# Altium footprint library PcbLib.PcbLib: 8 footprints
Each footprint in its own frame and in the unit in brackets; x right, y up, seen from the top. Pads: shape width x height; smd on the part's side, far side on the other; paste and mask are expansions set on the pad; w line width, h text height; cw(c..) or ccw(c..) is an arc to the next point about the centre after c.
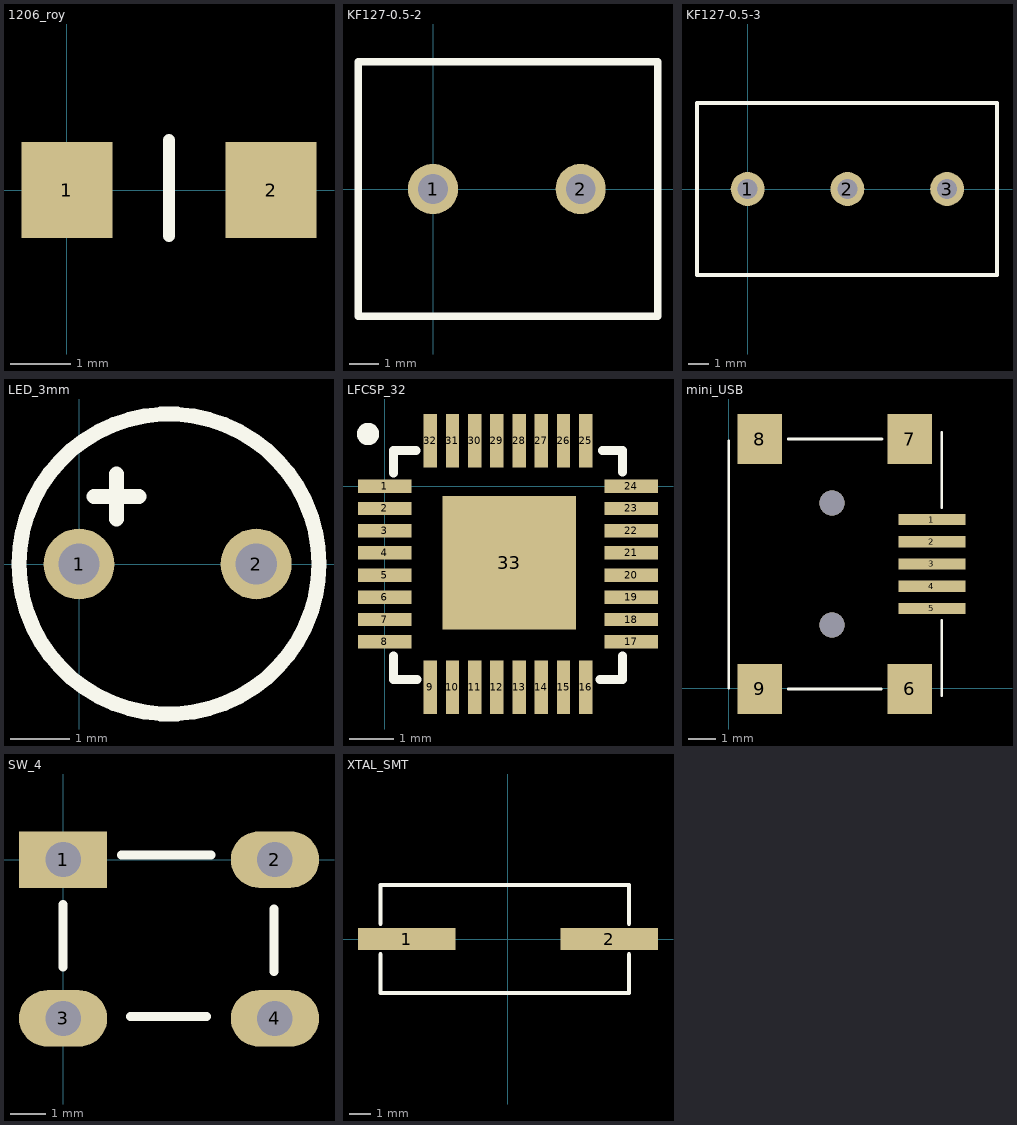
[diagram p0: the footprints below, top view; thin cyan lines are the x and y axes]

## 1206_roy [mm]
pads (2):
  rect 1.52x1.6 smd: 1(0,0) 2(3.4,0)
Top Overlay:
  lines w0.2: 1.702,-0.762 1.702,0.838

## KF127-0.5-2 [mm]
pads (2):
  round 1.7 hole 1: 1(0,0) 2(5,0)
Top Overlay:
  lines w0.254: -2.54,-4.318 7.62,-4.318 7.62,4.318 -2.54,4.318 -2.54,0 -2.54,-4.318

## KF127-0.5-3 [mm]
pads (3):
  round 1.7 hole 1: 1(0,0) 2(5,0) 3(10,0)
Top Overlay:
  lines w0.2: -2.54,-4.318 12.482,-4.318 12.5,-4.3 12.5,4.3 12.482,4.318 -2.54,4.318 -2.54,-4.318

## LED_3mm [mm]
pads (2):
  round 1.2 hole 0.7: 1(0,0) 2(3,0)
Top Overlay:
  circle w0.254: c1.524,0 r2.54
  lines w0.254: 0.254,1.143 1.016,1.143 ; 0.635,0.762 0.635,1.524

## LFCSP_32 [mm]
pads (33):
  rect 1.2x0.3 smd: 1(0,0) 2(0,-0.5) 3(0,-1) 4(0,-1.5) 5(0,-2) 6(0,-2.5) 7(0,-3) 8(0,-3.5) 17(5.55,-3.5) 18(5.55,-3) 19(5.55,-2.5) 20(5.55,-2) 21(5.55,-1.5) 22(5.55,-1) 23(5.55,-0.5) 24(5.55,0)
  rect 0.3x1.2 smd: 9(1.025,-4.525) 10(1.525,-4.525) 11(2.025,-4.525) 12(2.525,-4.525) 13(3.025,-4.525) 14(3.525,-4.525) 15(4.025,-4.525) 16(4.525,-4.525) 25(4.525,1.025) 26(4.025,1.025) 27(3.525,1.025) 28(3.025,1.025) 29(2.525,1.025) 30(2.025,1.025) 31(1.525,1.025) 32(1.025,1.025)
  rect 3x3 smd: 33(2.8,-1.725)
Top Overlay:
  circle w0.254: c-0.375,1.175 r0.125
  lines w0.203: 0.2,-3.825 0.2,-4.35 0.725,-4.35 ; 0.2,0.3 0.2,0.8 0.7,0.8 ; 4.85,-4.35 5.35,-4.35 5.35,-3.825 ; 4.9,0.8 5.35,0.8 5.35,0.325

## mini_USB [mm]
pads (9):
  rect 2.4x0.4 smd: 1(7.316,6.07) 2(7.316,5.27) 3(7.316,4.47) 4(7.316,3.67) 5(7.316,2.87)
  rect 1.6x1.8 smd: 6(6.516,-0.03) 7(6.516,8.97) 8(1.116,8.97) 9(1.116,-0.03)
via 3.716,2.27 diameter 0.9 hole 0.9
via 3.716,6.67 diameter 0.9 hole 0.9
Top Overlay:
  lines w0.1: 0,0 0,8.9 ; 2.141,-0.03 5.491,-0.03 ; 2.141,8.97 5.516,8.97 ; 7.671,-0.262 7.671,2.438 ; 7.671,6.502 7.671,9.202

## SW_4 [mm]
pads (4):
  rect 2.5x1.6 hole 1: 1(0,0)
  oval 2.5x1.6 hole 1: 2(6,0) 3(0,-4.5) 4(6,-4.5)
Top Overlay:
  lines w0.254: 0,-3.048 0,-1.27 ; 1.651,0.127 4.191,0.127 ; 1.905,-4.445 4.064,-4.445 ; 5.969,-3.175 5.969,-1.397

## XTAL_SMT [mm]
pads (2):
  rect 4.5x1 smd: 1(-4.69,0) 2(4.69,0)
Top Overlay:
  lines w0.2: -5.9,-0.7 -5.9,-2.5 5.6,-2.5 5.6,-0.7 ; -5.9,0.7 -5.9,2.5 5.6,2.5 5.6,0.7